# Altium schematic symbol library MEMORY.SchLib: 4 symbols
Pins are listed as number, name and electrical type; pins without a type are passive.

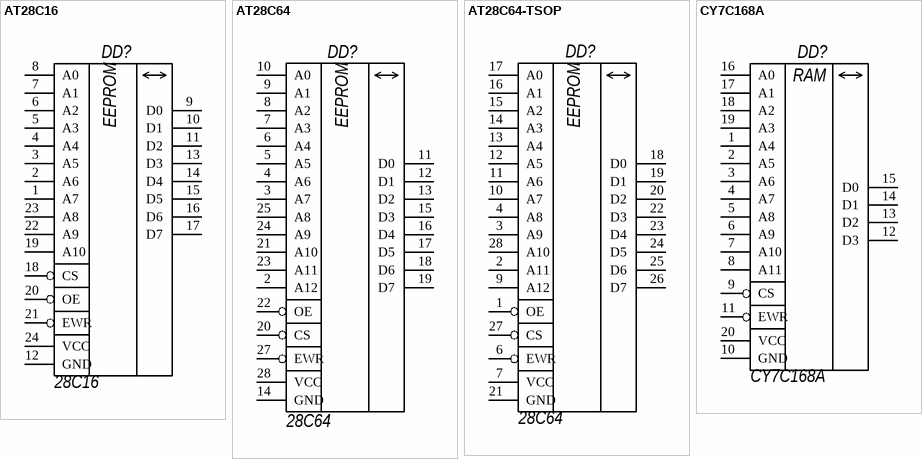
[diagram p0: symbols AT28C16 to CY7C168A]

## AT28C16
designator DD?, comment 28C16
16K EEPROM
footprint DIP-24 (DIP; 40 Leads; Row Spacing 15.24 mm; Pitch 2.54 mm)
pins: 1 A7, 2 A6, 3 A5, 4 A4, 5 A3, 6 A2, 7 A1, 8 A0, 9 D0, 10 D1, 11 D2, 12 GND, 13 D3, 14 D4, 15 D5, 16 D6, 17 D7, 18 CS, 19 A10, 20 OE, 21 EWR, 22 A9, 23 A8, 24 VCC
text: EEPROM

## AT28C64
designator DD?, comment 28C64
64K EEPROM
footprint DIP-28 (DIP; 40 Leads; Row Spacing 15.24 mm; Pitch 2.54 mm)
pins: 1 NC hidden, 2 A12, 3 A7, 4 A6, 5 A5, 6 A4, 7 A3, 8 A2, 9 A1, 10 A0, 11 D0, 12 D1, 13 D2, 14 GND, 15 D3, 16 D4, 17 D5, 18 D6, 19 D7, 20 CS, 21 A10, 22 OE, 23 A11, 24 A9, 25 A8, 27 EWR, 28 VCC
text: EEPROM

## AT28C64-TSOP
designator DD?, comment 28C64
64K EEPROM
pins: 1 OE, 2 A11, 3 A9, 4 A8, 5 NC hidden "NOT CONNECTED", 6 EWR, 7 VCC, 8 NC hidden "RDY/~BUSY", 9 A12, 10 A7, 11 A6, 12 A5, 13 A4, 14 A3, 15 A2, 16 A1, 17 A0, 18 D0, 19 D1, 20 D2, 21 GND, 22 D3, 23 D4, 24 D5, 25 D6, 26 D7, 27 CS, 28 A10
text: EEPROM

## CY7C168A
designator DD?
Статичний ОЗП
footprint SOJ-20 (SOJ, 20-Leads, Body 12,31x8,16mm, Pitch 1,27mm, IPC Low Density)
pins: 1 A4, 2 A5, 3 A6, 4 A7, 5 A8, 6 A9, 7 A10, 8 A11, 9 CS, 10 GND, 11 EWR, 12 D3, 13 D2, 14 D1, 15 D0, 16 A0, 17 A1, 18 A2, 19 A3, 20 VCC
text: RAM